# Altium integrated library Capacitors - Aluminum - Electrolytic SMT.IntLib: 1988 symbols (part 38 of 50)
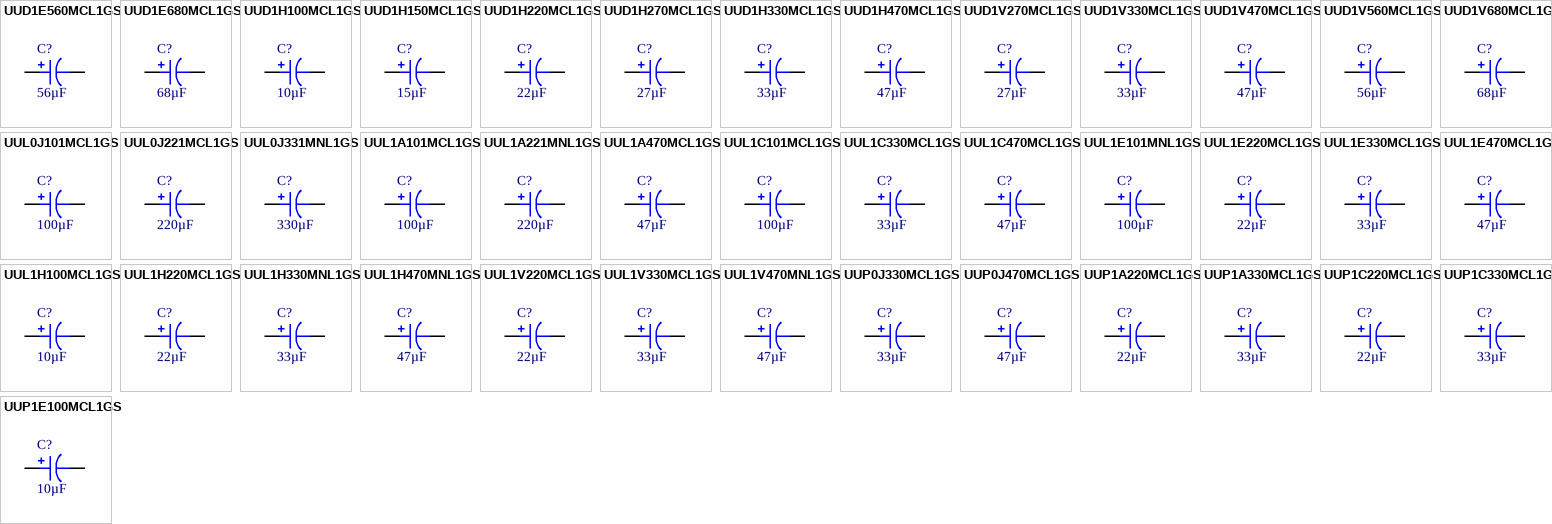
[diagram p85: symbols UUD1E560MCL1GS to UUP1E100MCL1GS]

## UUL1V220MCL1GS
designator C?, comment 22µF
CAP ALUM 22UF 20% 35V SMD; Part Number: UUL1V220MCL1GS; Manufacturer: Nichicon; Lifetime @ Temp.: 5000 Hrs @ 105°C; Polarization: Polar; Ripple Current @ High Frequency: 63mA @ 10kHz; Ripple Current @ Low Frequency: 42mA @ 120Hz; Surface Mount Land Size: 0.260" L x 0.260" W (6.60mm x 6.60mm); Applications: General Purpose; Capacitance: 22µF; ComponentLink1Description: Datasheet; ComponentLink1URL: http://nichicon-us.com/english/products/pdfs/e-uul.pdf; ComponentLink2Description: DigiKey Link; ComponentLink2URL: http://digikey.com/product-detail/en/nichicon/UUL1V220MCL1GS/493-9533-1-ND/3962865; Device Package: Radial, Can - SMD; Height - Seated (Max): 0.240" (6.10mm); LastUpdated: 9/2/2020 1:25:27 AM; Lifecycle Status: Active; Minimum Order: 1; Mounting Type: Surface Mount; Operating Temperature: -40°C ~ 105°C; Package / Case: Radial, Can - SMD; Packaging: TapeAndReel; PartId: 8104; Part Status: Active; Price: 0.20; Series: UUL; Size / Dimension: 0.248" Dia (6.30mm); Supplier 1: DigiKey; Supplier Part Number 1: 493-9533-1-ND; Tolerance: ±20%; Value: 22µF; Voltage - Rated: 35V
footprint CAP ALSMD 6.6MM H6.1MM
pins: 1, 2

## UUL1V330MCL1GS
designator C?, comment 33µF
CAP ALUM 33UF 20% 35V SMD; Part Number: UUL1V330MCL1GS; Manufacturer: Nichicon; Lifetime @ Temp.: 5000 Hrs @ 105°C; Polarization: Polar; Ripple Current @ High Frequency: 85.5mA @ 10kHz; Ripple Current @ Low Frequency: 57mA @ 120Hz; Surface Mount Land Size: 0.260" L x 0.260" W (6.60mm x 6.60mm); Applications: General Purpose; Capacitance: 33µF; ComponentLink1Description: Datasheet; ComponentLink1URL: http://nichicon-us.com/english/products/pdfs/e-uul.pdf; ComponentLink2Description: DigiKey Link; ComponentLink2URL: http://digikey.com/product-detail/en/nichicon/UUL1V330MCL1GS/493-9535-1-ND/3962867; Device Package: Radial, Can - SMD; Height - Seated (Max): 0.315" (8.00mm); LastUpdated: 9/2/2020 1:25:38 AM; Lifecycle Status: Active; Minimum Order: 1; Mounting Type: Surface Mount; Operating Temperature: -40°C ~ 105°C; Package / Case: Radial, Can - SMD; Packaging: TapeAndReel; PartId: 8371; Part Status: Active; Price: 0.26; Series: UUL; Size / Dimension: 0.248" Dia (6.30mm); Supplier 1: DigiKey; Supplier Part Number 1: 493-9535-1-ND; Tolerance: ±20%; Value: 33µF; Voltage - Rated: 35V
footprint CAP ALSMD 6.6MM H8.0MM
pins: 1, 2

## UUL1V470MNL1GS
designator C?, comment 47µF
CAP ALUM 47UF 20% 35V SMD; Part Number: UUL1V470MNL1GS; Manufacturer: Nichicon; Lifetime @ Temp.: 5000 Hrs @ 105°C; Polarization: Polar; Ripple Current @ High Frequency: 138mA @ 10kHz; Ripple Current @ Low Frequency: 92mA @ 120Hz; Surface Mount Land Size: 0.327" L x 0.327" W (8.30mm x 8.30mm); Applications: General Purpose; Capacitance: 47µF; ComponentLink1Description: Datasheet; ComponentLink1URL: http://nichicon-us.com/english/products/pdfs/e-uul.pdf; ComponentLink2Description: DigiKey Link; ComponentLink2URL: http://digikey.com/product-detail/en/nichicon/UUL1V470MNL1GS/493-9536-1-ND/3962868; Device Package: Radial, Can - SMD; Height - Seated (Max): 0.413" (10.50mm); LastUpdated: 9/2/2020 1:25:15 AM; Lifecycle Status: Active; Minimum Order: 1; Mounting Type: Surface Mount; Operating Temperature: -40°C ~ 105°C; Package / Case: Radial, Can - SMD; Packaging: TapeAndReel; PartId: 7524; Part Status: Active; Price: 0.32; Series: UUL; Size / Dimension: 0.315" Dia (8.00mm); Supplier 1: DigiKey; Supplier Part Number 1: 493-9536-1-ND; Tolerance: ±20%; Value: 47µF; Voltage - Rated: 35V
footprint CAP ALSMD 8.3MM H10.5MM
pins: 1, 2

## UUP0J330MCL1GS
designator C?, comment 33µF
CAP ALUM 33UF 20% 6.3V SMD; Part Number: UUP0J330MCL1GS; Manufacturer: Nichicon; Lifetime @ Temp.: 1000 Hrs @ 105°C; Polarization: Bi-Polar; Ripple Current @ High Frequency: 55.5mA @ 10kHz; Ripple Current @ Low Frequency: 37mA @ 120Hz; Surface Mount Land Size: 0.260" L x 0.260" W (6.60mm x 6.60mm); Applications: General Purpose; Capacitance: 33µF; ComponentLink1Description: Datasheet; ComponentLink1URL: http://nichicon-us.com/english/products/pdfs/e-uup.pdf; ComponentLink2Description: DigiKey Link; ComponentLink2URL: http://digikey.com/product-detail/en/nichicon/UUP0J330MCL1GS/493-9539-1-ND/3962871; Device Package: Radial, Can - SMD; Height - Seated (Max): 0.240" (6.10mm); LastUpdated: 9/2/2020 1:25:27 AM; Lifecycle Status: Active; Minimum Order: 1; Mounting Type: Surface Mount; Operating Temperature: -55°C ~ 105°C; Package / Case: Radial, Can - SMD; Packaging: TapeAndReel; PartId: 8098; Part Status: Active; Price: 0.18; Series: UUP; Size / Dimension: 0.248" Dia (6.30mm); Supplier 1: DigiKey; Supplier Part Number 1: 493-9539-1-ND; Tolerance: ±20%; Value: 33µF; Voltage - Rated: 6.3V
footprint CAP ALSMD 6.6MM H6.1MM
pins: 1, 2

## UUP0J470MCL1GS
designator C?, comment 47µF
CAP ALUM 47UF 20% 6.3V SMD; Part Number: UUP0J470MCL1GS; Manufacturer: Nichicon; Lifetime @ Temp.: 1000 Hrs @ 105°C; Polarization: Bi-Polar; Ripple Current @ High Frequency: 67.5mA @ 10kHz; Ripple Current @ Low Frequency: 45mA @ 120Hz; Surface Mount Land Size: 0.260" L x 0.260" W (6.60mm x 6.60mm); Applications: General Purpose; Capacitance: 47µF; ComponentLink1Description: Datasheet; ComponentLink1URL: http://nichicon-us.com/english/products/pdfs/e-uup.pdf; ComponentLink2Description: DigiKey Link; ComponentLink2URL: http://digikey.com/product-detail/en/nichicon/UUP0J470MCL1GS/493-9540-1-ND/3962872; Device Package: Radial, Can - SMD; Height - Seated (Max): 0.240" (6.10mm); LastUpdated: 9/2/2020 1:25:27 AM; Lifecycle Status: Active; Minimum Order: 1; Mounting Type: Surface Mount; Operating Temperature: -55°C ~ 105°C; Package / Case: Radial, Can - SMD; Packaging: TapeAndReel; PartId: 8056; Part Status: Active; Price: 0.20; Series: UUP; Size / Dimension: 0.248" Dia (6.30mm); Supplier 1: DigiKey; Supplier Part Number 1: 493-9540-1-ND; Tolerance: ±20%; Value: 47µF; Voltage - Rated: 6.3V
footprint CAP ALSMD 6.6MM H6.1MM
pins: 1, 2

## UUP1A220MCL1GS
designator C?, comment 22µF
CAP ALUM 22UF 20% 10V SMD; Part Number: UUP1A220MCL1GS; Manufacturer: Nichicon; Lifetime @ Temp.: 1000 Hrs @ 105°C; Polarization: Bi-Polar; Ripple Current @ High Frequency: 49.5mA @ 10kHz; Ripple Current @ Low Frequency: 33mA @ 120Hz; Surface Mount Land Size: 0.260" L x 0.260" W (6.60mm x 6.60mm); Applications: General Purpose; Capacitance: 22µF; ComponentLink1Description: Datasheet; ComponentLink1URL: http://nichicon-us.com/english/products/pdfs/e-uup.pdf; ComponentLink2Description: DigiKey Link; ComponentLink2URL: http://digikey.com/product-detail/en/nichicon/UUP1A220MCL1GS/493-9542-1-ND/3962874; Device Package: Radial, Can - SMD; Height - Seated (Max): 0.240" (6.10mm); LastUpdated: 9/2/2020 1:25:27 AM; Lifecycle Status: Active; Minimum Order: 1; Mounting Type: Surface Mount; Operating Temperature: -55°C ~ 105°C; Package / Case: Radial, Can - SMD; Packaging: TapeAndReel; PartId: 8051; Part Status: Active; Price: 0.20; Series: UUP; Size / Dimension: 0.248" Dia (6.30mm); Supplier 1: DigiKey; Supplier Part Number 1: 493-9542-1-ND; Tolerance: ±20%; Value: 22µF; Voltage - Rated: 10V
footprint CAP ALSMD 6.6MM H6.1MM
pins: 1, 2

## UUP1A330MCL1GS
designator C?, comment 33µF
CAP ALUM 33UF 20% 10V SMD; Part Number: UUP1A330MCL1GS; Manufacturer: Nichicon; Lifetime @ Temp.: 1000 Hrs @ 105°C; Polarization: Bi-Polar; Ripple Current @ High Frequency: 61.5mA @ 10kHz; Ripple Current @ Low Frequency: 41mA @ 120Hz; Surface Mount Land Size: 0.260" L x 0.260" W (6.60mm x 6.60mm); Applications: General Purpose; Capacitance: 33µF; ComponentLink1Description: Datasheet; ComponentLink1URL: http://nichicon-us.com/english/products/pdfs/e-uup.pdf; ComponentLink2Description: DigiKey Link; ComponentLink2URL: http://digikey.com/product-detail/en/nichicon/UUP1A330MCL1GS/493-9543-1-ND/3962875; Device Package: Radial, Can - SMD; Height - Seated (Max): 0.240" (6.10mm); LastUpdated: 9/2/2020 1:25:27 AM; Lifecycle Status: Active; Minimum Order: 1; Mounting Type: Surface Mount; Operating Temperature: -55°C ~ 105°C; Package / Case: Radial, Can - SMD; Packaging: TapeAndReel; PartId: 8050; Part Status: Active; Price: 0.20; Series: UUP; Size / Dimension: 0.248" Dia (6.30mm); Supplier 1: DigiKey; Supplier Part Number 1: 493-9543-1-ND; Tolerance: ±20%; Value: 33µF; Voltage - Rated: 10V
footprint CAP ALSMD 6.6MM H6.1MM
pins: 1, 2

## UUP1C220MCL1GS
designator C?, comment 22µF
CAP ALUM 22UF 20% 16V SMD; Part Number: UUP1C220MCL1GS; Manufacturer: Nichicon; Lifetime @ Temp.: 1000 Hrs @ 105°C; Polarization: Bi-Polar; Ripple Current @ High Frequency: 55.5mA @ 10kHz; Ripple Current @ Low Frequency: 37mA @ 120Hz; Surface Mount Land Size: 0.260" L x 0.260" W (6.60mm x 6.60mm); Applications: General Purpose; Capacitance: 22µF; ComponentLink1Description: Datasheet; ComponentLink1URL: http://nichicon-us.com/english/products/pdfs/e-uup.pdf; ComponentLink2Description: DigiKey Link; ComponentLink2URL: http://digikey.com/product-detail/en/nichicon/UUP1C220MCL1GS/493-9545-1-ND/3962877; Device Package: Radial, Can - SMD; Height - Seated (Max): 0.240" (6.10mm); LastUpdated: 9/2/2020 1:25:27 AM; Lifecycle Status: Active; Minimum Order: 1; Mounting Type: Surface Mount; Operating Temperature: -55°C ~ 105°C; Package / Case: Radial, Can - SMD; Packaging: TapeAndReel; PartId: 8129; Part Status: Active; Price: 0.19; Series: UUP; Size / Dimension: 0.248" Dia (6.30mm); Supplier 1: DigiKey; Supplier Part Number 1: 493-9545-1-ND; Tolerance: ±20%; Value: 22µF; Voltage - Rated: 16V
footprint CAP ALSMD 6.6MM H6.1MM
pins: 1, 2

## UUP1C330MCL1GS
designator C?, comment 33µF
CAP ALUM 33UF 20% 16V SMD; Part Number: UUP1C330MCL1GS; Manufacturer: Nichicon; Lifetime @ Temp.: 1000 Hrs @ 105°C; Polarization: Bi-Polar; Ripple Current @ High Frequency: 73.5mA @ 10kHz; Ripple Current @ Low Frequency: 49mA @ 120Hz; Surface Mount Land Size: 0.260" L x 0.260" W (6.60mm x 6.60mm); Applications: General Purpose; Capacitance: 33µF; ComponentLink1Description: Datasheet; ComponentLink1URL: http://nichicon-us.com/english/products/pdfs/e-uup.pdf; ComponentLink2Description: DigiKey Link; ComponentLink2URL: http://digikey.com/product-detail/en/nichicon/UUP1C330MCL1GS/493-9546-1-ND/3962878; Device Package: Radial, Can - SMD; Height - Seated (Max): 0.240" (6.10mm); LastUpdated: 9/2/2020 1:25:27 AM; Lifecycle Status: Active; Minimum Order: 1; Mounting Type: Surface Mount; Operating Temperature: -55°C ~ 105°C; Package / Case: Radial, Can - SMD; Packaging: TapeAndReel; PartId: 8054; Part Status: Active; Price: 0.20; Series: UUP; Size / Dimension: 0.248" Dia (6.30mm); Supplier 1: DigiKey; Supplier Part Number 1: 493-9546-1-ND; Tolerance: ±20%; Value: 33µF; Voltage - Rated: 16V
footprint CAP ALSMD 6.6MM H6.1MM
pins: 1, 2

## UUP1E100MCL1GS
designator C?, comment 10µF
CAP ALUM 10UF 20% 25V SMD; Part Number: UUP1E100MCL1GS; Manufacturer: Nichicon; Lifetime @ Temp.: 1000 Hrs @ 105°C; Polarization: Bi-Polar; Ripple Current @ High Frequency: 40.5mA @ 10kHz; Ripple Current @ Low Frequency: 27mA @ 120Hz; Surface Mount Land Size: 0.260" L x 0.260" W (6.60mm x 6.60mm); Applications: General Purpose; Capacitance: 10µF; ComponentLink1Description: Datasheet; ComponentLink1URL: http://nichicon-us.com/english/products/pdfs/e-uup.pdf; ComponentLink2Description: DigiKey Link; ComponentLink2URL: http://digikey.com/product-detail/en/nichicon/UUP1E100MCL1GS/493-9548-1-ND/3962880; Device Package: Radial, Can - SMD; Height - Seated (Max): 0.240" (6.10mm); LastUpdated: 9/2/2020 1:25:27 AM; Lifecycle Status: Active; Minimum Order: 1; Mounting Type: Surface Mount; Operating Temperature: -55°C ~ 105°C; Package / Case: Radial, Can - SMD; Packaging: TapeAndReel; PartId: 8052; Part Status: Active; Price: 0.20; Series: UUP; Size / Dimension: 0.248" Dia (6.30mm); Supplier 1: DigiKey; Supplier Part Number 1: 493-9548-1-ND; Tolerance: ±20%; Value: 10µF; Voltage - Rated: 25V
footprint CAP ALSMD 6.6MM H6.1MM
pins: 1, 2

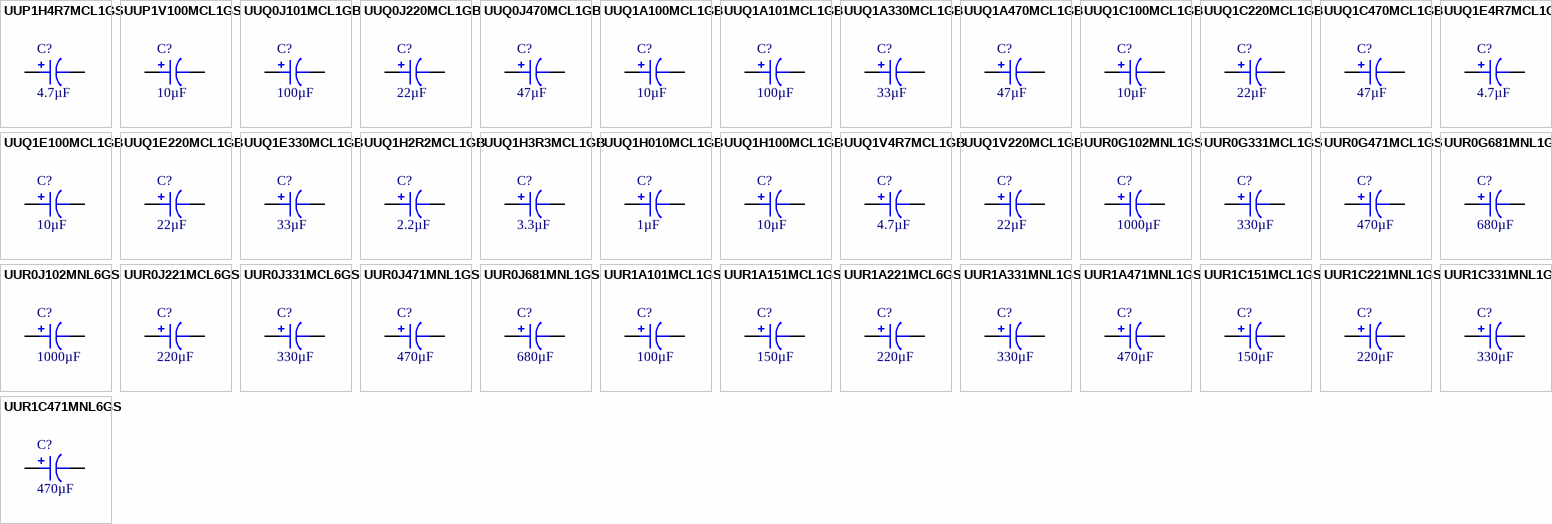
[diagram p37: symbols UUP1H4R7MCL1GS to UUR1C471MNL6GS]

## UUP1H4R7MCL1GS
designator C?, comment 4.7µF
CAP ALUM 4.7UF 20% 50V SMD; Part Number: UUP1H4R7MCL1GS; Manufacturer: Nichicon; Lifetime @ Temp.: 1000 Hrs @ 105°C; Polarization: Bi-Polar; Ripple Current @ High Frequency: 30mA @ 10kHz; Ripple Current @ Low Frequency: 20mA @ 120Hz; Surface Mount Land Size: 0.260" L x 0.260" W (6.60mm x 6.60mm); Applications: General Purpose; Capacitance: 4.7µF; ComponentLink1Description: Datasheet; ComponentLink1URL: http://nichicon-us.com/english/products/pdfs/e-uup.pdf; ComponentLink2Description: DigiKey Link; ComponentLink2URL: http://digikey.com/product-detail/en/nichicon/UUP1H4R7MCL1GS/493-9555-1-ND/3962887; Device Package: Radial, Can - SMD; Height - Seated (Max): 0.240" (6.10mm); LastUpdated: 9/2/2020 1:25:27 AM; Lifecycle Status: Active; Minimum Order: 1; Mounting Type: Surface Mount; Operating Temperature: -55°C ~ 105°C; Package / Case: Radial, Can - SMD; Packaging: TapeAndReel; PartId: 8053; Part Status: Active; Price: 0.20; Series: UUP; Size / Dimension: 0.248" Dia (6.30mm); Supplier 1: DigiKey; Supplier Part Number 1: 493-9555-1-ND; Tolerance: ±20%; Value: 4.7µF; Voltage - Rated: 50V
footprint CAP ALSMD 6.6MM H6.1MM
pins: 1, 2

## UUP1V100MCL1GS
designator C?, comment 10µF
CAP ALUM 10UF 20% 35V SMD; Part Number: UUP1V100MCL1GS; Manufacturer: Nichicon; Lifetime @ Temp.: 1000 Hrs @ 105°C; Polarization: Bi-Polar; Ripple Current @ High Frequency: 43.5mA @ 10kHz; Ripple Current @ Low Frequency: 29mA @ 120Hz; Surface Mount Land Size: 0.260" L x 0.260" W (6.60mm x 6.60mm); Applications: General Purpose; Capacitance: 10µF; ComponentLink1Description: Datasheet; ComponentLink1URL: http://nichicon-us.com/english/products/pdfs/e-uup.pdf; ComponentLink2Description: DigiKey Link; ComponentLink2URL: http://digikey.com/product-detail/en/nichicon/UUP1V100MCL1GS/493-9559-1-ND/3962891; Device Package: Radial, Can - SMD; Height - Seated (Max): 0.240" (6.10mm); LastUpdated: 9/2/2020 1:25:26 AM; Lifecycle Status: Active; Minimum Order: 1; Mounting Type: Surface Mount; Operating Temperature: -55°C ~ 105°C; Package / Case: Radial, Can - SMD; Packaging: TapeAndReel; PartId: 8161; Part Status: Active; Price: 0.17; Series: UUP; Size / Dimension: 0.248" Dia (6.30mm); Supplier 1: DigiKey; Supplier Part Number 1: 493-9559-1-ND; Tolerance: ±20%; Value: 10µF; Voltage - Rated: 35V
footprint CAP ALSMD 6.6MM H6.1MM
pins: 1, 2

## UUQ0J101MCL1GB
designator C?, comment 100µF
CAP ALUM 100UF 20% 6.3V SMD; Part Number: UUQ0J101MCL1GB; Manufacturer: Nichicon; Lifetime @ Temp.: 1000 Hrs @ 105°C; Polarization: Polar; Ripple Current @ High Frequency: 90mA @ 10kHz; Ripple Current @ Low Frequency: 60mA @ 120Hz; Surface Mount Land Size: 0.260" L x 0.260" W (6.60mm x 6.60mm); Applications: Audio; Capacitance: 100µF; ComponentLink1Description: Datasheet; ComponentLink1URL: http://nichicon-us.com/english/products/pdfs/e-uuq.pdf; ComponentLink2Description: DigiKey Link; ComponentLink2URL: http://digikey.com/product-detail/en/nichicon/UUQ0J101MCL1GB/493-16090-1-ND/6556077; Device Package: Radial, Can - SMD; Height - Seated (Max): 0.217" (5.50mm); LastUpdated: 9/2/2020 1:18:37 AM; Lifecycle Status: Active; Minimum Order: 1; Mounting Type: Surface Mount; Operating Temperature: -40°C ~ 105°C; Package / Case: Radial, Can - SMD; Packaging: TapeAndReel; PartId: 8868; Part Status: Active; Price: 0.18; Series: UUQ; Size / Dimension: 0.248" Dia (6.30mm); Supplier 1: DigiKey; Supplier Part Number 1: 493-16090-1-ND; Tolerance: ±20%; Value: 100µF; Voltage - Rated: 6.3V
footprint CAP ALSMD 6.6MM H6.1MM
pins: 1, 2

## UUQ0J220MCL1GB
designator C?, comment 22µF
CAP ALUM 22UF 20% 6.3V SMD; Part Number: UUQ0J220MCL1GB; Manufacturer: Nichicon; Lifetime @ Temp.: 1000 Hrs @ 105°C; Polarization: Polar; Ripple Current @ High Frequency: 33mA @ 10kHz; Ripple Current @ Low Frequency: 22mA @ 120Hz; Surface Mount Land Size: 0.169" L x 0.169" W (4.30mm x 4.30mm); Applications: Audio; Capacitance: 22µF; ComponentLink1Description: Datasheet; ComponentLink1URL: http://nichicon-us.com/english/products/pdfs/e-uuq.pdf; ComponentLink2Description: DigiKey Link; ComponentLink2URL: http://digikey.com/product-detail/en/nichicon/UUQ0J220MCL1GB/493-17488-1-ND/8582480; Device Package: Radial, Can - SMD; Height - Seated (Max): 0.213" (5.40mm); LastUpdated: 9/2/2020 1:23:45 AM; Lifecycle Status: Active; Minimum Order: 1; Mounting Type: Surface Mount; Operating Temperature: -40°C ~ 105°C; Package / Case: Radial, Can - SMD; Packaging: TapeAndReel; PartId: 7082; Part Status: Active; Price: 0.10; Series: UUQ; Size / Dimension: 0.157" Dia (4.00mm); Supplier 1: DigiKey; Supplier Part Number 1: 493-17488-1-ND; Tolerance: ±20%; Value: 22µF; Voltage - Rated: 6.3V
footprint CAP ALSMD POLY 4.3MM H5.5MM
pins: 1, 2

## UUQ0J470MCL1GB
designator C?, comment 47µF
CAP ALUM 47UF 20% 6.3V SMD; Part Number: UUQ0J470MCL1GB; Manufacturer: Nichicon; Lifetime @ Temp.: 1000 Hrs @ 105°C; Polarization: Polar; Ripple Current @ High Frequency: 54mA @ 10kHz; Ripple Current @ Low Frequency: 36mA @ 120Hz; Surface Mount Land Size: 0.209" L x 0.209" W (5.30mm x 5.30mm); Applications: Audio; Capacitance: 47µF; ComponentLink1Description: Datasheet; ComponentLink1URL: http://nichicon-us.com/english/products/pdfs/e-uuq.pdf; ComponentLink2Description: DigiKey Link; ComponentLink2URL: http://digikey.com/product-detail/en/nichicon/UUQ0J470MCL1GB/493-17489-1-ND/8582481; Device Package: Radial, Can - SMD; Height - Seated (Max): 0.213" (5.40mm); LastUpdated: 9/2/2020 1:25:23 AM; Lifecycle Status: Active; Minimum Order: 1; Mounting Type: Surface Mount; Operating Temperature: -40°C ~ 105°C; Package / Case: Radial, Can - SMD; Packaging: TapeAndReel; PartId: 7959; Part Status: Active; Price: 0.12; Series: UUQ; Size / Dimension: 0.197" Dia (5.00mm); Supplier 1: DigiKey; Supplier Part Number 1: 493-17489-1-ND; Tolerance: ±20%; Value: 47µF; Voltage - Rated: 6.3V
footprint CAP ALSMD 5.3MM H5.4MM
pins: 1, 2

## UUQ1A100MCL1GB
designator C?, comment 10µF
CAP ALUM 10UF 20% 10V SMD; Part Number: UUQ1A100MCL1GB; Manufacturer: Nichicon; Lifetime @ Temp.: 1000 Hrs @ 105°C; Polarization: Polar; Ripple Current @ High Frequency: 33mA @ 10kHz; Ripple Current @ Low Frequency: 22mA @ 120Hz; Surface Mount Land Size: 0.169" L x 0.169" W (4.30mm x 4.30mm); Applications: Audio; Capacitance: 10µF; ComponentLink1Description: Datasheet; ComponentLink1URL: http://nichicon-us.com/english/products/pdfs/e-uuq.pdf; ComponentLink2Description: DigiKey Link; ComponentLink2URL: http://digikey.com/product-detail/en/nichicon/UUQ1A100MCL1GB/493-14557-1-ND/5800257; Device Package: Radial, Can - SMD; Height - Seated (Max): 0.213" (5.40mm); LastUpdated: 9/2/2020 1:23:45 AM; Lifecycle Status: Active; Minimum Order: 1; Mounting Type: Surface Mount; Operating Temperature: -40°C ~ 105°C; Package / Case: Radial, Can - SMD; Packaging: TapeAndReel; PartId: 7088; Part Status: Active; Price: 0.10; Series: UUQ; Size / Dimension: 0.157" Dia (4.00mm); Supplier 1: DigiKey; Supplier Part Number 1: 493-14557-1-ND; Tolerance: ±20%; Value: 10µF; Voltage - Rated: 10V
footprint CAP ALSMD POLY 4.3MM H5.5MM
pins: 1, 2

## UUQ1A101MCL1GB
designator C?, comment 100µF
CAP ALUM 100UF 20% 10V SMD; Part Number: UUQ1A101MCL1GB; Manufacturer: Nichicon; Lifetime @ Temp.: 1000 Hrs @ 105°C; Polarization: Polar; Ripple Current @ High Frequency: 90mA @ 10kHz; Ripple Current @ Low Frequency: 60mA @ 120Hz; Surface Mount Land Size: 0.260" L x 0.260" W (6.60mm x 6.60mm); Applications: Audio; Capacitance: 100µF; ComponentLink1Description: Datasheet; ComponentLink1URL: http://nichicon-us.com/english/products/pdfs/e-uuq.pdf; ComponentLink2Description: DigiKey Link; ComponentLink2URL: http://digikey.com/product-detail/en/nichicon/UUQ1A101MCL1GB/493-16092-1-ND/6556079; Device Package: Radial, Can - SMD; Height - Seated (Max): 0.213" (5.40mm); LastUpdated: 9/2/2020 1:18:33 AM; Lifecycle Status: Active; Minimum Order: 1; Mounting Type: Surface Mount; Operating Temperature: -40°C ~ 105°C; Package / Case: Radial, Can - SMD; Packaging: TapeAndReel; PartId: 8786; Part Status: Active; Price: 0.18; Series: UUQ; Size / Dimension: 0.248" Dia (6.30mm); Supplier 1: DigiKey; Supplier Part Number 1: 493-16092-1-ND; Tolerance: ±20%; Value: 100µF; Voltage - Rated: 10V
footprint CAP ALSMD 6.6MM H5.4MM
pins: 1, 2

## UUQ1A330MCL1GB
designator C?, comment 33µF
CAP ALUM 33UF 20% 10V SMD; Part Number: UUQ1A330MCL1GB; Manufacturer: Nichicon; Lifetime @ Temp.: 1000 Hrs @ 105°C; Polarization: Polar; Ripple Current @ Low Frequency: 35mA @ 120Hz; Surface Mount Land Size: 0.209" L x 0.209" W (5.30mm x 5.30mm); Applications: Audio; Capacitance: 33µF; ComponentLink1Description: Datasheet; ComponentLink1URL: http://nichicon-us.com/english/products/pdfs/e-uuq.pdf; ComponentLink2Description: DigiKey Link; ComponentLink2URL: http://digikey.com/product-detail/en/nichicon/UUQ1A330MCL1GB/493-16094-1-ND/6556081; Device Package: Radial, Can - SMD; Height - Seated (Max): 0.213" (5.40mm); LastUpdated: 9/2/2020 1:25:24 AM; Lifecycle Status: Active; Minimum Order: 1; Mounting Type: Surface Mount; Operating Temperature: -40°C ~ 105°C; Package / Case: Radial, Can - SMD; Packaging: TapeAndReel; PartId: 7855; Part Status: Active; Price: 0.12; Series: UUQ; Size / Dimension: 0.197" Dia (5.00mm); Supplier 1: DigiKey; Supplier Part Number 1: 493-16094-1-ND; Tolerance: ±20%; Value: 33µF; Voltage - Rated: 10V
footprint CAP ALSMD 5.3MM H5.4MM
pins: 1, 2

## UUQ1A470MCL1GB
designator C?, comment 47µF
CAP ALUM 47UF 20% 10V SMD; Part Number: UUQ1A470MCL1GB; Manufacturer: Nichicon; Lifetime @ Temp.: 1000 Hrs @ 105°C; Polarization: Polar; Ripple Current @ Low Frequency: 46mA @ 120Hz; Surface Mount Land Size: 0.260" L x 0.260" W (6.60mm x 6.60mm); Applications: Audio; Capacitance: 47µF; ComponentLink1Description: Datasheet; ComponentLink1URL: http://nichicon-us.com/english/products/pdfs/e-uuq.pdf; ComponentLink2Description: DigiKey Link; ComponentLink2URL: http://digikey.com/product-detail/en/nichicon/UUQ1A470MCL1GB/493-16096-1-ND/6556083; Device Package: Radial, Can - SMD; Height - Seated (Max): 0.213" (5.40mm); LastUpdated: 9/2/2020 1:18:32 AM; Lifecycle Status: Active; Minimum Order: 1; Mounting Type: Surface Mount; Operating Temperature: -40°C ~ 105°C; Package / Case: Radial, Can - SMD; Packaging: TapeAndReel; PartId: 8713; Part Status: Active; Price: 0.18; Series: UUQ; Size / Dimension: 0.248" Dia (6.30mm); Supplier 1: DigiKey; Supplier Part Number 1: 493-16096-1-ND; Tolerance: ±20%; Value: 47µF; Voltage - Rated: 10V
footprint CAP ALSMD 6.6MM H5.4MM
pins: 1, 2

## UUQ1C100MCL1GB
designator C?, comment 10µF
CAP ALUM 10UF 20% 16V SMD; Part Number: UUQ1C100MCL1GB; Manufacturer: Nichicon; Lifetime @ Temp.: 1000 Hrs @ 105°C; Polarization: Polar; Ripple Current @ High Frequency: 27mA @ 10kHz; Ripple Current @ Low Frequency: 18mA @ 120Hz; Surface Mount Land Size: 0.169" L x 0.169" W (4.30mm x 4.30mm); Applications: Audio; Capacitance: 10µF; ComponentLink1Description: Datasheet; ComponentLink1URL: http://nichicon-us.com/english/products/pdfs/e-uuq.pdf; ComponentLink2Description: DigiKey Link; ComponentLink2URL: http://digikey.com/product-detail/en/nichicon/UUQ1C100MCL1GB/493-14558-1-ND/5800258; Device Package: Radial, Can - SMD; Height - Seated (Max): 0.213" (5.40mm); LastUpdated: 9/2/2020 1:23:45 AM; Lifecycle Status: Active; Minimum Order: 1; Mounting Type: Surface Mount; Operating Temperature: -40°C ~ 105°C; Package / Case: Radial, Can - SMD; Packaging: TapeAndReel; PartId: 7077; Part Status: Active; Price: 0.10; Series: UUQ; Size / Dimension: 0.157" Dia (4.00mm); Supplier 1: DigiKey; Supplier Part Number 1: 493-14558-1-ND; Tolerance: ±20%; Value: 10µF; Voltage - Rated: 16V
footprint CAP ALSMD POLY 4.3MM H5.5MM
pins: 1, 2

## UUQ1C220MCL1GB
designator C?, comment 22µF
CAP ALUM 22UF 20% 16V SMD; Part Number: UUQ1C220MCL1GB; Manufacturer: Nichicon; Lifetime @ Temp.: 1000 Hrs @ 105°C; Polarization: Polar; Ripple Current @ High Frequency: 45mA @ 10kHz; Ripple Current @ Low Frequency: 30mA @ 120Hz; Surface Mount Land Size: 0.209" L x 0.209" W (5.30mm x 5.30mm); Applications: Audio; Capacitance: 22µF; ComponentLink1Description: Datasheet; ComponentLink1URL: http://nichicon-us.com/english/products/pdfs/e-uuq.pdf; ComponentLink2Description: DigiKey Link; ComponentLink2URL: http://digikey.com/product-detail/en/nichicon/UUQ1C220MCL1GB/493-17490-1-ND/8582482; Device Package: Radial, Can - SMD; Height - Seated (Max): 0.213" (5.40mm); LastUpdated: 9/2/2020 1:25:23 AM; Lifecycle Status: Active; Minimum Order: 1; Mounting Type: Surface Mount; Operating Temperature: -40°C ~ 105°C; Package / Case: Radial, Can - SMD; Packaging: TapeAndReel; PartId: 7962; Part Status: Active; Price: 0.12; Series: UUQ; Size / Dimension: 0.197" Dia (5.00mm); Supplier 1: DigiKey; Supplier Part Number 1: 493-17490-1-ND; Tolerance: ±20%; Value: 22µF; Voltage - Rated: 16V
footprint CAP ALSMD 5.3MM H5.4MM
pins: 1, 2

## UUQ1C470MCL1GB
designator C?, comment 47µF
CAP ALUM 47UF 20% 16V SMD; Part Number: UUQ1C470MCL1GB; Manufacturer: Nichicon; Lifetime @ Temp.: 1000 Hrs @ 105°C; Polarization: Polar; Ripple Current @ High Frequency: 75mA @ 10kHz; Ripple Current @ Low Frequency: 66mA @ 120Hz; Surface Mount Land Size: 0.260" L x 0.260" W (6.60mm x 6.60mm); Applications: Audio; Capacitance: 47µF; ComponentLink1Description: Datasheet; ComponentLink1URL: http://nichicon-us.com/english/products/pdfs/e-uuq.pdf; ComponentLink2Description: DigiKey Link; ComponentLink2URL: http://digikey.com/product-detail/en/nichicon/UUQ1C470MCL1GB/493-17491-1-ND/8582483; Device Package: Radial, Can - SMD; Height - Seated (Max): 0.213" (5.40mm); LastUpdated: 9/2/2020 1:18:32 AM; Lifecycle Status: Active; Minimum Order: 1; Mounting Type: Surface Mount; Operating Temperature: -40°C ~ 105°C; Package / Case: Radial, Can - SMD; Packaging: TapeAndReel; PartId: 8699; Part Status: Active; Price: 0.18; Series: UUQ; Size / Dimension: 0.248" Dia (6.30mm); Supplier 1: DigiKey; Supplier Part Number 1: 493-17491-1-ND; Tolerance: ±20%; Value: 47µF; Voltage - Rated: 16V
footprint CAP ALSMD 6.6MM H5.4MM
pins: 1, 2

## UUQ1E4R7MCL1GB
designator C?, comment 4.7µF
CAP ALUM 4.7UF 20% 25V SMD; Part Number: UUQ1E4R7MCL1GB; Manufacturer: Nichicon; Lifetime @ Temp.: 1000 Hrs @ 105°C; Polarization: Polar; Ripple Current @ High Frequency: 19.5mA @ 10kHz; Ripple Current @ Low Frequency: 13mA @ 120Hz; Surface Mount Land Size: 0.169" L x 0.169" W (4.30mm x 4.30mm); Applications: Audio; Capacitance: 4.7µF; ComponentLink1Description: Datasheet; ComponentLink1URL: http://nichicon-us.com/english/products/pdfs/e-uuq.pdf; ComponentLink2Description: DigiKey Link; ComponentLink2URL: http://digikey.com/product-detail/en/nichicon/UUQ1E4R7MCL1GB/493-16102-1-ND/6556089; Device Package: Radial, Can - SMD; Height - Seated (Max): 0.213" (5.40mm); LastUpdated: 9/2/2020 1:23:45 AM; Lifecycle Status: Active; Minimum Order: 1; Mounting Type: Surface Mount; Operating Temperature: -40°C ~ 105°C; Package / Case: Radial, Can - SMD; Packaging: TapeAndReel; PartId: 7078; Part Status: Active; Price: 0.10; Series: UUQ; Size / Dimension: 0.157" Dia (4.00mm); Supplier 1: DigiKey; Supplier Part Number 1: 493-16102-1-ND; Tolerance: ±20%; Value: 4.7µF; Voltage - Rated: 25V
footprint CAP ALSMD POLY 4.3MM H5.5MM
pins: 1, 2

## UUQ1E100MCL1GB
designator C?, comment 10µF
CAP ALUM 10UF 20% 25V SMD; Part Number: UUQ1E100MCL1GB; Manufacturer: Nichicon; Lifetime @ Temp.: 1000 Hrs @ 105°C; Polarization: Polar; Ripple Current @ High Frequency: 34.5mA @ 10kHz; Ripple Current @ Low Frequency: 23mA @ 120Hz; Surface Mount Land Size: 0.209" L x 0.209" W (5.30mm x 5.30mm); Applications: Audio; Capacitance: 10µF; ComponentLink1Description: Datasheet; ComponentLink1URL: http://nichicon-us.com/english/products/pdfs/e-uuq.pdf; ComponentLink2Description: DigiKey Link; ComponentLink2URL: http://digikey.com/product-detail/en/nichicon/UUQ1E100MCL1GB/493-3202-1-ND/1965349; Device Package: Radial, Can - SMD; Height - Seated (Max): 0.213" (5.40mm); LastUpdated: 9/2/2020 1:25:23 AM; Lifecycle Status: Active; Minimum Order: 1; Mounting Type: Surface Mount; Operating Temperature: -40°C ~ 105°C; Package / Case: Radial, Can - SMD; Packaging: TapeAndReel; PartId: 7982; Part Status: Active; Price: 0.12; Series: UUQ; Size / Dimension: 0.197" Dia (5.00mm); Supplier 1: DigiKey; Supplier Part Number 1: 493-3202-1-ND; Tolerance: ±20%; Value: 10µF; Voltage - Rated: 25V
footprint CAP ALSMD 5.3MM H5.4MM
pins: 1, 2

## UUQ1E220MCL1GB
designator C?, comment 22µF
CAP ALUM 22UF 20% 25V SMD; Part Number: UUQ1E220MCL1GB; Manufacturer: Nichicon; Lifetime @ Temp.: 1000 Hrs @ 105°C; Polarization: Polar; Ripple Current @ High Frequency: 57mA @ 10kHz; Ripple Current @ Low Frequency: 38mA @ 120Hz; Surface Mount Land Size: 0.260" L x 0.260" W (6.60mm x 6.60mm); Applications: Audio; Capacitance: 22µF; ComponentLink1Description: Datasheet; ComponentLink1URL: http://nichicon-us.com/english/products/pdfs/e-uuq.pdf; ComponentLink2Description: DigiKey Link; ComponentLink2URL: http://digikey.com/product-detail/en/nichicon/UUQ1E220MCL1GB/493-16101-1-ND/6556088; Device Package: Radial, Can - SMD; Height - Seated (Max): 0.213" (5.40mm); LastUpdated: 9/2/2020 1:18:33 AM; Lifecycle Status: Active; Minimum Order: 1; Mounting Type: Surface Mount; Operating Temperature: -40°C ~ 105°C; Package / Case: Radial, Can - SMD; Packaging: TapeAndReel; PartId: 8734; Part Status: Active; Price: 0.18; Series: UUQ; Size / Dimension: 0.248" Dia (6.30mm); Supplier 1: DigiKey; Supplier Part Number 1: 493-16101-1-ND; Tolerance: ±20%; Value: 22µF; Voltage - Rated: 25V
footprint CAP ALSMD 6.6MM H5.4MM
pins: 1, 2

## UUQ1E330MCL1GB
designator C?, comment 33µF
CAP ALUM 33UF 20% 25V SMD; Part Number: UUQ1E330MCL1GB; Manufacturer: Nichicon; Lifetime @ Temp.: 1000 Hrs @ 105°C; Polarization: Polar; Ripple Current @ High Frequency: 72mA @ 10kHz; Ripple Current @ Low Frequency: 48mA @ 120Hz; Surface Mount Land Size: 0.260" L x 0.260" W (6.60mm x 6.60mm); Applications: Audio; Capacitance: 33µF; ComponentLink1Description: Datasheet; ComponentLink1URL: http://nichicon-us.com/english/products/pdfs/e-uuq.pdf; ComponentLink2Description: DigiKey Link; ComponentLink2URL: http://digikey.com/product-detail/en/nichicon/UUQ1E330MCL1GB/493-3205-1-ND/1965352; Device Package: Radial, Can - SMD; Height - Seated (Max): 0.213" (5.40mm); LastUpdated: 9/2/2020 1:18:32 AM; Lifecycle Status: Active; Minimum Order: 1; Mounting Type: Surface Mount; Operating Temperature: -40°C ~ 105°C; Package / Case: Radial, Can - SMD; Packaging: TapeAndReel; PartId: 8714; Part Status: Active; Price: 0.18; Series: UUQ; Size / Dimension: 0.248" Dia (6.30mm); Supplier 1: DigiKey; Supplier Part Number 1: 493-3205-1-ND; Tolerance: ±20%; Value: 33µF; Voltage - Rated: 25V
footprint CAP ALSMD 6.6MM H5.4MM
pins: 1, 2

## UUQ1H2R2MCL1GB
designator C?, comment 2.2µF
CAP ALUM 2.2UF 20% 50V SMD; Part Number: UUQ1H2R2MCL1GB; Manufacturer: Nichicon; Lifetime @ Temp.: 1000 Hrs @ 105°C; Polarization: Polar; Ripple Current @ High Frequency: 16.5mA @ 10kHz; Ripple Current @ Low Frequency: 11mA @ 120Hz; Surface Mount Land Size: 0.169" L x 0.169" W (4.30mm x 4.30mm); Applications: Audio; Capacitance: 2.2µF; ComponentLink1Description: Datasheet; ComponentLink1URL: http://nichicon-us.com/english/products/pdfs/e-uuq.pdf; ComponentLink2Description: DigiKey Link; ComponentLink2URL: http://digikey.com/product-detail/en/nichicon/UUQ1H2R2MCL1GB/493-17492-1-ND/8582484; Device Package: Radial, Can - SMD; Height - Seated (Max): 0.213" (5.40mm); LastUpdated: 9/2/2020 1:23:45 AM; Lifecycle Status: Active; Minimum Order: 1; Mounting Type: Surface Mount; Operating Temperature: -40°C ~ 105°C; Package / Case: Radial, Can - SMD; Packaging: TapeAndReel; PartId: 7083; Part Status: Active; Price: 0.10; Series: UUQ; Size / Dimension: 0.157" Dia (4.00mm); Supplier 1: DigiKey; Supplier Part Number 1: 493-17492-1-ND; Tolerance: ±20%; Value: 2.2µF; Voltage - Rated: 50V
footprint CAP ALSMD POLY 4.3MM H5.5MM
pins: 1, 2

## UUQ1H3R3MCL1GB
designator C?, comment 3.3µF
CAP ALUM 3.3UF 20% 50V SMD; Part Number: UUQ1H3R3MCL1GB; Manufacturer: Nichicon; Lifetime @ Temp.: 1000 Hrs @ 105°C; Polarization: Polar; Ripple Current @ High Frequency: 21mA @ 10kHz; Ripple Current @ Low Frequency: 14mA @ 120Hz; Surface Mount Land Size: 0.169" L x 0.169" W (4.30mm x 4.30mm); Applications: Audio; Capacitance: 3.3µF; ComponentLink1Description: Datasheet; ComponentLink1URL: http://nichicon-us.com/english/products/pdfs/e-uuq.pdf; ComponentLink2Description: DigiKey Link; ComponentLink2URL: http://digikey.com/product-detail/en/nichicon/UUQ1H3R3MCL1GB/493-17493-1-ND/8582485; Device Package: Radial, Can - SMD; Height - Seated (Max): 0.213" (5.40mm); LastUpdated: 9/2/2020 1:23:45 AM; Lifecycle Status: Active; Minimum Order: 1; Mounting Type: Surface Mount; Operating Temperature: -40°C ~ 105°C; Package / Case: Radial, Can - SMD; Packaging: TapeAndReel; PartId: 7084; Part Status: Active; Price: 0.10; Series: UUQ; Size / Dimension: 0.157" Dia (4.00mm); Supplier 1: DigiKey; Supplier Part Number 1: 493-17493-1-ND; Tolerance: ±20%; Value: 3.3µF; Voltage - Rated: 50V
footprint CAP ALSMD POLY 4.3MM H5.5MM
pins: 1, 2

## UUQ1H010MCL1GB
designator C?, comment 1µF
CAP ALUM 1UF 20% 50V SMD; Part Number: UUQ1H010MCL1GB; Manufacturer: Nichicon; Lifetime @ Temp.: 1000 Hrs @ 105°C; Polarization: Polar; Ripple Current @ High Frequency: 9.3mA @ 10kHz; Ripple Current @ Low Frequency: 6.2mA @ 120Hz; Surface Mount Land Size: 0.169" L x 0.169" W (4.30mm x 4.30mm); Applications: Audio; Capacitance: 1µF; ComponentLink1Description: Datasheet; ComponentLink1URL: http://nichicon-us.com/english/products/pdfs/e-uuq.pdf; ComponentLink2Description: DigiKey Link; ComponentLink2URL: http://digikey.com/product-detail/en/nichicon/UUQ1H010MCL1GB/493-3207-1-ND/1965354; Device Package: Radial, Can - SMD; Height - Seated (Max): 0.213" (5.40mm); LastUpdated: 9/2/2020 1:23:45 AM; Lifecycle Status: Active; Minimum Order: 1; Mounting Type: Surface Mount; Operating Temperature: -40°C ~ 105°C; Package / Case: Radial, Can - SMD; Packaging: TapeAndReel; PartId: 7076; Part Status: Active; Price: 0.10; Series: UUQ; Size / Dimension: 0.157" Dia (4.00mm); Supplier 1: DigiKey; Supplier Part Number 1: 493-3207-1-ND; Tolerance: ±20%; Value: 1µF; Voltage - Rated: 50V
footprint CAP ALSMD POLY 4.3MM H5.5MM
pins: 1, 2

## UUQ1H100MCL1GB
designator C?, comment 10µF
CAP ALUM 10UF 20% 50V SMD; Part Number: UUQ1H100MCL1GB; Manufacturer: Nichicon; Lifetime @ Temp.: 1000 Hrs @ 105°C; Polarization: Polar; Ripple Current @ High Frequency: 45mA @ 10kHz; Ripple Current @ Low Frequency: 30mA @ 120Hz; Surface Mount Land Size: 0.260" L x 0.260" W (6.60mm x 6.60mm); Applications: Audio; Capacitance: 10µF; ComponentLink1Description: Datasheet; ComponentLink1URL: http://nichicon-us.com/english/products/pdfs/e-uuq.pdf; ComponentLink2Description: DigiKey Link; ComponentLink2URL: http://digikey.com/product-detail/en/nichicon/UUQ1H100MCL1GB/493-3208-1-ND/1965355; Device Package: Radial, Can - SMD; Height - Seated (Max): 0.213" (5.40mm); LastUpdated: 9/2/2020 1:18:33 AM; Lifecycle Status: Active; Minimum Order: 1; Mounting Type: Surface Mount; Operating Temperature: -40°C ~ 105°C; Package / Case: Radial, Can - SMD; Packaging: TapeAndReel; PartId: 8772; Part Status: Active; Price: 0.18; Series: UUQ; Size / Dimension: 0.248" Dia (6.30mm); Supplier 1: DigiKey; Supplier Part Number 1: 493-3208-1-ND; Tolerance: ±20%; Value: 10µF; Voltage - Rated: 50V
footprint CAP ALSMD 6.6MM H5.4MM
pins: 1, 2

## UUQ1V4R7MCL1GB
designator C?, comment 4.7µF
CAP ALUM 4.7UF 20% 35V SMD; Part Number: UUQ1V4R7MCL1GB; Manufacturer: Nichicon; Lifetime @ Temp.: 1000 Hrs @ 105°C; Polarization: Polar; Ripple Current @ High Frequency: 22.5mA @ 10kHz; Ripple Current @ Low Frequency: 15mA @ 120Hz; Surface Mount Land Size: 0.169" L x 0.169" W (4.30mm x 4.30mm); Applications: Audio; Capacitance: 4.7µF; ComponentLink1Description: Datasheet; ComponentLink1URL: http://nichicon-us.com/english/products/pdfs/e-uuq.pdf; ComponentLink2Description: DigiKey Link; ComponentLink2URL: http://digikey.com/product-detail/en/nichicon/UUQ1V4R7MCL1GB/493-17496-1-ND/8582488; Device Package: Radial, Can - SMD; Height - Seated (Max): 0.213" (5.40mm); LastUpdated: 9/2/2020 1:23:45 AM; Lifecycle Status: Active; Minimum Order: 1; Mounting Type: Surface Mount; Operating Temperature: -40°C ~ 105°C; Package / Case: Radial, Can - SMD; Packaging: TapeAndReel; PartId: 7081; Part Status: Active; Price: 0.10; Series: UUQ; Size / Dimension: 0.157" Dia (4.00mm); Supplier 1: DigiKey; Supplier Part Number 1: 493-17496-1-ND; Tolerance: ±20%; Value: 4.7µF; Voltage - Rated: 35V
footprint CAP ALSMD POLY 4.3MM H5.5MM
pins: 1, 2

## UUQ1V220MCL1GB
designator C?, comment 22µF
CAP ALUM 22UF 20% 35V SMD; Part Number: UUQ1V220MCL1GB; Manufacturer: Nichicon; Lifetime @ Temp.: 1000 Hrs @ 105°C; Polarization: Polar; Ripple Current @ High Frequency: 63mA @ 10kHz; Ripple Current @ Low Frequency: 42mA @ 120Hz; Surface Mount Land Size: 0.260" L x 0.260" W (6.60mm x 6.60mm); Applications: Audio; Capacitance: 22µF; ComponentLink1Description: Datasheet; ComponentLink1URL: http://nichicon-us.com/english/products/pdfs/e-uuq.pdf; ComponentLink2Description: DigiKey Link; ComponentLink2URL: http://digikey.com/product-detail/en/nichicon/UUQ1V220MCL1GB/493-17495-1-ND/8582487; Device Package: Radial, Can - SMD; Height - Seated (Max): 0.213" (5.40mm); LastUpdated: 9/2/2020 1:18:32 AM; Lifecycle Status: Active; Minimum Order: 1; Mounting Type: Surface Mount; Operating Temperature: -40°C ~ 105°C; Package / Case: Radial, Can - SMD; Packaging: TapeAndReel; PartId: 8700; Part Status: Active; Price: 0.18; Series: UUQ; Size / Dimension: 0.248" Dia (6.30mm); Supplier 1: DigiKey; Supplier Part Number 1: 493-17495-1-ND; Tolerance: ±20%; Value: 22µF; Voltage - Rated: 35V
footprint CAP ALSMD 6.6MM H5.4MM
pins: 1, 2

## UUR0G102MNL1GS
designator C?, comment 1000µF
CAP ALUM 1000UF 20% 4V SMD; Part Number: UUR0G102MNL1GS; Manufacturer: Nichicon; Lifetime @ Temp.: 2000 Hrs @ 85°C; Ripple Current @ High Frequency: 447.2mA @ 10kHz; Ripple Current @ Low Frequency: 344mA @ 120Hz; Surface Mount Land Size: 0.327" L x 0.327" W (8.30mm x 8.30mm); Applications: General Purpose; Capacitance: 1000µF; ComponentLink1Description: Datasheet; ComponentLink1URL: http://nichicon-us.com/english/products/pdfs/e-uur.pdf; ComponentLink2Description: DigiKey Link; ComponentLink2URL: http://digikey.com/product-detail/en/nichicon/UUR0G102MNL1GS/493-9563-1-ND/3962895; Device Package: Radial, Can - SMD; Height - Seated (Max): 0.413" (10.50mm); LastUpdated: 9/2/2020 1:25:16 AM; Lifecycle Status: Active; Minimum Order: 1; Mounting Type: Surface Mount; Operating Temperature: -40°C ~ 85°C; Package / Case: Radial, Can - SMD; Packaging: TapeAndReel; PartId: 7461; Part Status: Active; Price: 0.21; Series: UUR; Size / Dimension: 0.315" Dia (8.00mm); Supplier 1: DigiKey; Supplier Part Number 1: 493-9563-1-ND; Tolerance: ±20%; Value: 1000µF; Voltage - Rated: 4V
footprint CAP ALSMD 8.3MM H10.5MM
pins: 1, 2

## UUR0G331MCL1GS
designator C?, comment 330µF
CAP ALUM 330UF 20% 4V SMD; Part Number: UUR0G331MCL1GS; Manufacturer: Nichicon; Lifetime @ Temp.: 2000 Hrs @ 85°C; Ripple Current @ High Frequency: 197.6mA @ 10kHz; Ripple Current @ Low Frequency: 152mA @ 120Hz; Surface Mount Land Size: 0.260" L x 0.260" W (6.60mm x 6.60mm); Applications: General Purpose; Capacitance: 330µF; ComponentLink1Description: Datasheet; ComponentLink1URL: http://nichicon-us.com/english/products/pdfs/e-uur.pdf; ComponentLink2Description: DigiKey Link; ComponentLink2URL: http://digikey.com/product-detail/en/nichicon/UUR0G331MCL1GS/493-9565-1-ND/3962897; Device Package: Radial, Can - SMD; Height - Seated (Max): 0.240" (6.10mm); LastUpdated: 9/2/2020 1:25:26 AM; Lifecycle Status: Active; Minimum Order: 1; Mounting Type: Surface Mount; Operating Temperature: -40°C ~ 85°C; Package / Case: Radial, Can - SMD; Packaging: TapeAndReel; PartId: 8160; Part Status: Active; Price: 0.11; Series: UUR; Size / Dimension: 0.248" Dia (6.30mm); Supplier 1: DigiKey; Supplier Part Number 1: 493-9565-1-ND; Tolerance: ±20%; Value: 330µF; Voltage - Rated: 4V
footprint CAP ALSMD 6.6MM H6.1MM
pins: 1, 2

## UUR0G471MCL1GS
designator C?, comment 470µF
CAP ALUM 470UF 20% 4V SMD; Part Number: UUR0G471MCL1GS; Manufacturer: Nichicon; Lifetime @ Temp.: 2000 Hrs @ 85°C; Ripple Current @ High Frequency: 260mA @ 10kHz; Ripple Current @ Low Frequency: 200mA @ 120Hz; Surface Mount Land Size: 0.260" L x 0.260" W (6.60mm x 6.60mm); Applications: General Purpose; Capacitance: 470µF; ComponentLink1Description: Datasheet; ComponentLink1URL: http://nichicon-us.com/english/products/pdfs/e-uur.pdf; ComponentLink2Description: DigiKey Link; ComponentLink2URL: http://digikey.com/product-detail/en/nichicon/UUR0G471MCL1GS/493-9566-1-ND/3962898; Device Package: Radial, Can - SMD; Height - Seated (Max): 0.315" (8.00mm); LastUpdated: 9/2/2020 1:25:37 AM; Lifecycle Status: Active; Minimum Order: 1; Mounting Type: Surface Mount; Operating Temperature: -40°C ~ 85°C; Package / Case: Radial, Can - SMD; Packaging: TapeAndReel; PartId: 8474; Part Status: Active; Price: 0.10; Series: UUR; Size / Dimension: 0.248" Dia (6.30mm); Supplier 1: DigiKey; Supplier Part Number 1: 493-9566-1-ND; Tolerance: ±20%; Value: 470µF; Voltage - Rated: 4V
footprint CAP ALSMD 6.6MM H8.0MM
pins: 1, 2

## UUR0G681MNL1GS
designator C?, comment 680µF
CAP ALUM 680UF 20% 4V SMD; Part Number: UUR0G681MNL1GS; Manufacturer: Nichicon; Lifetime @ Temp.: 2000 Hrs @ 85°C; Ripple Current @ High Frequency: 369.2mA @ 10kHz; Ripple Current @ Low Frequency: 284mA @ 120Hz; Surface Mount Land Size: 0.327" L x 0.327" W (8.30mm x 8.30mm); Applications: General Purpose; Capacitance: 680µF; ComponentLink1Description: Datasheet; ComponentLink1URL: http://nichicon-us.com/english/products/pdfs/e-uur.pdf; ComponentLink2Description: DigiKey Link; ComponentLink2URL: http://digikey.com/product-detail/en/nichicon/UUR0G681MNL1GS/493-9567-1-ND/3962899; Device Package: Radial, Can - SMD; Height - Seated (Max): 0.413" (10.50mm); LastUpdated: 9/2/2020 1:25:16 AM; Lifecycle Status: Active; Minimum Order: 1; Mounting Type: Surface Mount; Operating Temperature: -40°C ~ 85°C; Package / Case: Radial, Can - SMD; Packaging: TapeAndReel; PartId: 7450; Part Status: Active; Price: 0.14; Series: UUR; Size / Dimension: 0.315" Dia (8.00mm); Supplier 1: DigiKey; Supplier Part Number 1: 493-9567-1-ND; Tolerance: ±20%; Value: 680µF; Voltage - Rated: 4V
footprint CAP ALSMD 8.3MM H10.5MM
pins: 1, 2

## UUR0J102MNL6GS
designator C?, comment 1000µF
CAP ALUM 1000UF 20% 6.3V SMD; Part Number: UUR0J102MNL6GS; Manufacturer: Nichicon; Lifetime @ Temp.: 2000 Hrs @ 85°C; Ripple Current @ High Frequency: 483.6mA @ 10kHz; Ripple Current @ Low Frequency: 372mA @ 120Hz; Surface Mount Land Size: 0.327" L x 0.327" W (8.30mm x 8.30mm); Applications: General Purpose; Capacitance: 1000µF; ComponentLink1Description: Datasheet; ComponentLink1URL: http://nichicon-us.com/english/products/pdfs/e-uur.pdf; ComponentLink2Description: DigiKey Link; ComponentLink2URL: http://digikey.com/product-detail/en/nichicon/UUR0J102MNL6GS/493-6203-1-ND/3438716; Device Package: Radial, Can - SMD; Height - Seated (Max): 0.413" (10.50mm); LastUpdated: 9/2/2020 1:25:15 AM; Lifecycle Status: Active; Minimum Order: 1; Mounting Type: Surface Mount; Operating Temperature: -40°C ~ 85°C; Package / Case: Radial, Can - SMD; Packaging: TapeAndReel; PartId: 7576; Part Status: Active; Price: 0.21; Series: UUR; Size / Dimension: 0.315" Dia (8.00mm); Supplier 1: DigiKey; Supplier Part Number 1: 493-6203-1-ND; Tolerance: ±20%; Value: 1000µF; Voltage - Rated: 6.3V
footprint CAP ALSMD 8.3MM H10.5MM
pins: 1, 2

## UUR0J221MCL6GS
designator C?, comment 220µF
CAP ALUM 220UF 20% 6.3V SMD; Part Number: UUR0J221MCL6GS; Manufacturer: Nichicon; Lifetime @ Temp.: 2000 Hrs @ 85°C; Ripple Current @ High Frequency: 185.9mA @ 10kHz; Ripple Current @ Low Frequency: 143mA @ 120Hz; Surface Mount Land Size: 0.260" L x 0.260" W (6.60mm x 6.60mm); Applications: General Purpose; Capacitance: 220µF; ComponentLink1Description: Datasheet; ComponentLink1URL: http://nichicon-us.com/english/products/pdfs/e-uur.pdf; ComponentLink2Description: DigiKey Link; ComponentLink2URL: http://digikey.com/product-detail/en/nichicon/UUR0J221MCL6GS/493-9569-1-ND/3962901; Device Package: Radial, Can - SMD; Height - Seated (Max): 0.240" (6.10mm); LastUpdated: 9/2/2020 1:25:27 AM; Lifecycle Status: Active; Minimum Order: 1; Mounting Type: Surface Mount; Operating Temperature: -40°C ~ 85°C; Package / Case: Radial, Can - SMD; Packaging: TapeAndReel; PartId: 8076; Part Status: Active; Price: 0.09; Series: UUR; Size / Dimension: 0.248" Dia (6.30mm); Supplier 1: DigiKey; Supplier Part Number 1: 493-9569-1-ND; Tolerance: ±20%; Value: 220µF; Voltage - Rated: 6.3V
footprint CAP ALSMD 6.6MM H6.1MM
pins: 1, 2

## UUR0J331MCL6GS
designator C?, comment 330µF
CAP ALUM 330UF 20% 6.3V SMD; Part Number: UUR0J331MCL6GS; Manufacturer: Nichicon; Lifetime @ Temp.: 2000 Hrs @ 85°C; Ripple Current @ High Frequency: 244.4mA @ 10kHz; Ripple Current @ Low Frequency: 188mA @ 120Hz; Surface Mount Land Size: 0.260" L x 0.260" W (6.60mm x 6.60mm); Applications: General Purpose; Capacitance: 330µF; ComponentLink1Description: Datasheet; ComponentLink1URL: http://nichicon-us.com/english/products/pdfs/e-uur.pdf; ComponentLink2Description: DigiKey Link; ComponentLink2URL: http://digikey.com/product-detail/en/nichicon/UUR0J331MCL6GS/493-6206-1-ND/3438719; Device Package: Radial, Can - SMD; Height - Seated (Max): 0.315" (8.00mm); LastUpdated: 9/2/2020 1:25:38 AM; Lifecycle Status: Active; Minimum Order: 1; Mounting Type: Surface Mount; Operating Temperature: -40°C ~ 85°C; Package / Case: Radial, Can - SMD; Packaging: TapeAndReel; PartId: 8393; Part Status: Active; Price: 0.10; Series: UUR; Size / Dimension: 0.248" Dia (6.30mm); Supplier 1: DigiKey; Supplier Part Number 1: 493-6206-1-ND; Tolerance: ±20%; Value: 330µF; Voltage - Rated: 6.3V
footprint CAP ALSMD 6.6MM H8.0MM
pins: 1, 2

## UUR0J471MNL1GS
designator C?, comment 470µF
CAP ALUM 470UF 20% 6.3V SMD; Part Number: UUR0J471MNL1GS; Manufacturer: Nichicon; Lifetime @ Temp.: 2000 Hrs @ 85°C; Ripple Current @ High Frequency: 344.5mA @ 10kHz; Ripple Current @ Low Frequency: 265mA @ 120Hz; Surface Mount Land Size: 0.327" L x 0.327" W (8.30mm x 8.30mm); Applications: General Purpose; Capacitance: 470µF; ComponentLink1Description: Datasheet; ComponentLink1URL: http://nichicon-us.com/english/products/pdfs/e-uur.pdf; ComponentLink2Description: DigiKey Link; ComponentLink2URL: http://digikey.com/product-detail/en/nichicon/UUR0J471MNL1GS/493-6207-1-ND/3438720; Device Package: Radial, Can - SMD; Height - Seated (Max): 0.413" (10.50mm); LastUpdated: 9/2/2020 1:25:13 AM; Lifecycle Status: Active; Minimum Order: 1; Mounting Type: Surface Mount; Operating Temperature: -40°C ~ 85°C; Package / Case: Radial, Can - SMD; Packaging: TapeAndReel; PartId: 7755; Part Status: Active; Price: 0.16; Series: UUR; Size / Dimension: 0.315" Dia (8.00mm); Supplier 1: DigiKey; Supplier Part Number 1: 493-6207-1-ND; Tolerance: ±20%; Value: 470µF; Voltage - Rated: 6.3V
footprint CAP ALSMD 8.3MM H10.5MM
pins: 1, 2

## UUR0J681MNL1GS
designator C?, comment 680µF
CAP ALUM 680UF 20% 6.3V SMD; Part Number: UUR0J681MNL1GS; Manufacturer: Nichicon; Lifetime @ Temp.: 2000 Hrs @ 85°C; Ripple Current @ High Frequency: 413.4mA @ 10kHz; Ripple Current @ Low Frequency: 318mA @ 120Hz; Surface Mount Land Size: 0.327" L x 0.327" W (8.30mm x 8.30mm); Applications: General Purpose; Capacitance: 680µF; ComponentLink1Description: Datasheet; ComponentLink1URL: http://nichicon-us.com/english/products/pdfs/e-uur.pdf; ComponentLink2Description: DigiKey Link; ComponentLink2URL: http://digikey.com/product-detail/en/nichicon/UUR0J681MNL1GS/493-9570-1-ND/3962902; Device Package: Radial, Can - SMD; Height - Seated (Max): 0.413" (10.50mm); LastUpdated: 9/2/2020 1:25:13 AM; Lifecycle Status: Active; Minimum Order: 1; Mounting Type: Surface Mount; Operating Temperature: -40°C ~ 85°C; Package / Case: Radial, Can - SMD; Packaging: TapeAndReel; PartId: 7759; Part Status: Active; Price: 0.15; Series: UUR; Size / Dimension: 0.315" Dia (8.00mm); Supplier 1: DigiKey; Supplier Part Number 1: 493-9570-1-ND; Tolerance: ±20%; Value: 680µF; Voltage - Rated: 6.3V
footprint CAP ALSMD 8.3MM H10.5MM
pins: 1, 2

## UUR1A101MCL1GS
designator C?, comment 100µF
CAP ALUM 100UF 20% 10V SMD; Part Number: UUR1A101MCL1GS; Manufacturer: Nichicon; Lifetime @ Temp.: 2000 Hrs @ 85°C; Ripple Current @ High Frequency: 91mA @ 10kHz; Ripple Current @ Low Frequency: 70mA @ 120Hz; Surface Mount Land Size: 0.260" L x 0.260" W (6.60mm x 6.60mm); Applications: General Purpose; Capacitance: 100µF; ComponentLink1Description: Datasheet; ComponentLink1URL: http://nichicon-us.com/english/products/pdfs/e-uur.pdf; ComponentLink2Description: DigiKey Link; ComponentLink2URL: http://digikey.com/product-detail/en/nichicon/UUR1A101MCL1GS/493-9571-1-ND/3962903; Device Package: Radial, Can - SMD; Height - Seated (Max): 0.240" (6.10mm); LastUpdated: 9/2/2020 1:25:27 AM; Lifecycle Status: Active; Minimum Order: 1; Mounting Type: Surface Mount; Operating Temperature: -40°C ~ 85°C; Package / Case: Radial, Can - SMD; Packaging: TapeAndReel; PartId: 8044; Part Status: Active; Price: 0.08; Series: UUR; Size / Dimension: 0.248" Dia (6.30mm); Supplier 1: DigiKey; Supplier Part Number 1: 493-9571-1-ND; Tolerance: ±20%; Value: 100µF; Voltage - Rated: 10V
footprint CAP ALSMD 6.6MM H6.1MM
pins: 1, 2